# Altium footprint library Timing Display.PcbLib: 5 footprints
Each footprint in its own frame and in the unit in brackets; x right, y up, seen from the top. Pads: shape width x height; smd on the part's side, far side on the other; paste and mask are expansions set on the pad; w line width, h text height; cw(c..) or ccw(c..) is an arc to the next point about the centre after c.
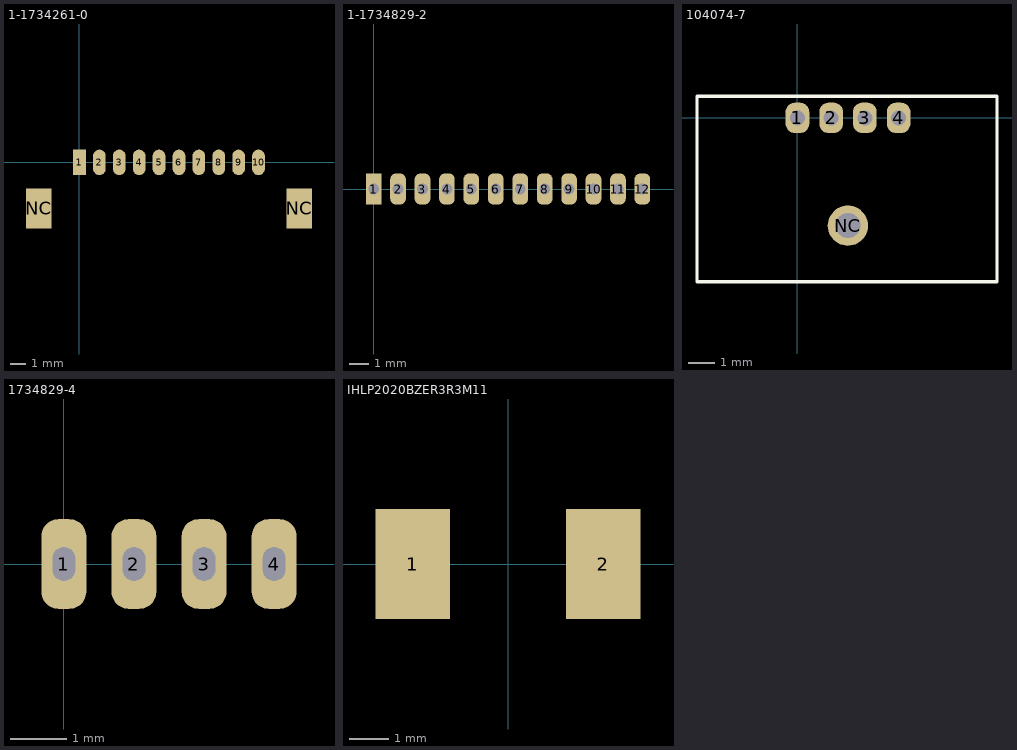
[diagram p0: the footprints below, top view; thin cyan lines are the x and y axes]

## 1-1734261-0 [mm]
pads (12):
  rect 0.8x1.6 smd: 1(0,0)
  oval 0.8x1.6 smd: 2(1.25,0) 3(2.5,0) 4(3.75,0) 5(5,0) 6(6.25,0) 7(7.5,0) 8(8.75,0) 9(10,0) 10(11.25,0)
  rect 1.6x2.5 smd: NC(-2.55,-2.9) NC(13.8,-2.9)
3D body "1-1734261-0.stp": height 3.46, standoff 0.01, extent -3.307,-4.421 14.483,0.279

## 1-1734829-2 [mm]
pads (12):
  rect 0.8x1.6 hole 0.55: 1(0,0)
  rrect75% 0.8x1.6 hole 0.55: 2(1.25,0) 3(2.5,0) 4(3.75,0) 5(5,0) 6(6.25,0) 7(7.5,0) 8(8.75,0) 9(10,0) 10(11.25,0) 11(12.5,0) 12(13.75,0)
3D body "1-1734829-2.stp": height 3.24, standoff -2.26, extent -1.485,-4.23 15.265,0.47

## 104074-7 [mm]
pads (5):
  rrect75% 0.89x1.14 hole 0.56: 1(0,0) 2(1.27,0) 3(2.54,0) 4(3.81,0)
  round 1.52 hole 0.94: NC(1.9,-4.06)
Top Overlay:
  lines w0.127: -3.785,-6.172 7.518,-6.172 7.518,0.813 -3.785,0.813 -3.785,-6.172
3D body "104074-7.stp": height 6.4, standoff -2.49, extent -3.759,-10.391 7.521,0.789

## 1734829-4 [mm]
pads (4):
  rrect75% 0.8x1.6 hole 0.4 slot 0.6 at 90 deg: 1(0,0) 2(1.25,0) 3(2.5,0) 4(3.75,0)
3D body "1734829-4.stp": height 3.29, standoff -2.21, extent -1.495,-4.217 5.255,0.483

## IHLP2020BZER3R3M11 [mil]
pads (2):
  rect 75x110 smd: 1(-95.5,0) 2(95.5,0)
3D body "IHLP2020BZER3R3M11.stp": height 76.07, standoff 0.57, extent -103.3,-99 111.3,103.6